# EAGLE library part GE10R (library resistor-sil)
SIL RESISTOR
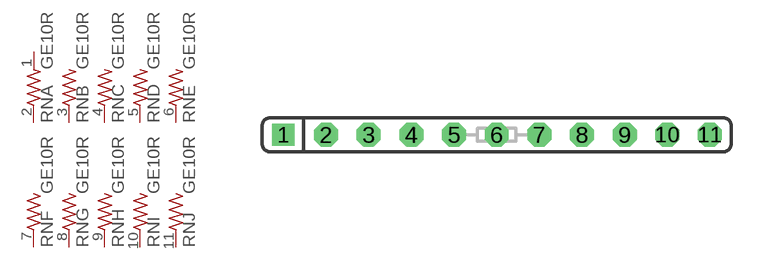
[diagram p24: symbol with the pads of SIL11; footprint SIL11]

Designator prefix RN; gates A=R-NV B=R-NV1 C=R-NV1 D=R-NV1 E=R-NV1 F=R-NV1 G=R-NV1 H=R-NV1 I=R-NV1 J=R-NV1

## GE10R  [SIL11]
1  A:1  pas
2  A:2  pas
3  B:2  pas
4  C:2  pas
5  D:2  pas
6  E:2  pas
7  F:2  pas
8  G:2  pas
9  H:2  pas
10  I:2  pas
11  J:2  pas

## Footprint SIL11 (pad centres in mm)
Single In Line
drill 0.813 square: 1 -12.7,0
drill 0.813 pad 1.422 octagon: 2 -10.16,0; 3 -7.62,0; 4 -5.08,0; 5 -2.54,0; 6 0,0; 7 2.54,0; 8 5.08,0; 9 7.62,0; 10 10.16,0; 11 12.7,0